# Altium schematic symbol library KBPC5012.SchLib: 1 symbol
Pins are listed as number, name and electrical type; pins without a type are passive.

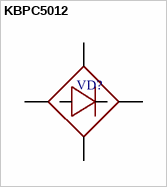
[diagram p0: symbol KBPC5012]

## KBPC5012
designator VD?  (value not drawn)
pins: 1, 2, 3, 4